# Altium footprint library RF_Transceiver_LimeMicro_LMS6002D_DQFN-116.PcbLib: 1 footprints
Each footprint in its own frame and in the unit in brackets; x right, y up, seen from the top. Pads: shape width x height; smd on the part's side, far side on the other; paste and mask are expansions set on the pad; w line width, h text height; cw(c..) or ccw(c..) is an arc to the next point about the centre after c.
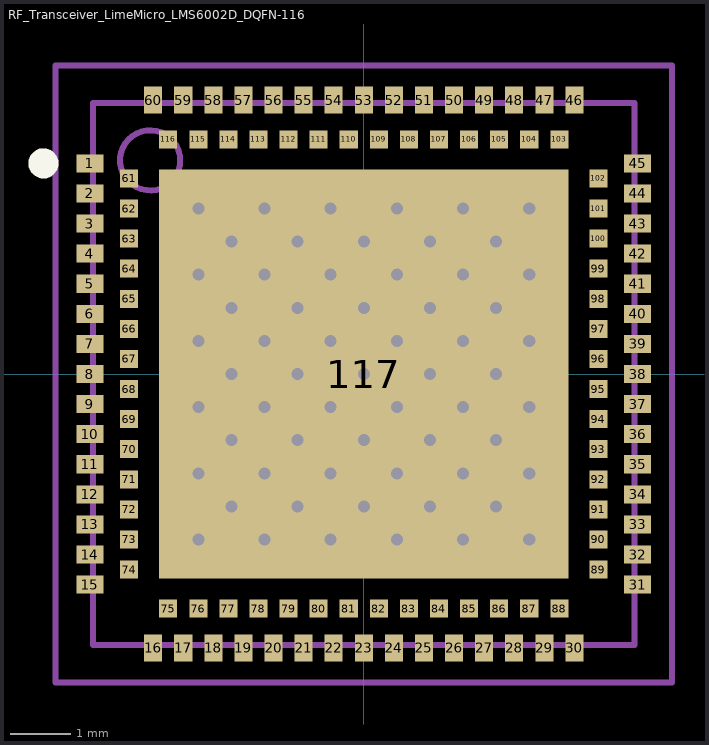
[diagram p0: the footprint, top view; thin cyan lines are the x and y axes]

## RF_Transceiver_LimeMicro_LMS6002D_DQFN-116 [mm]
height 0.85
pads (117):
  rect 0.45x0.3 smd: 1(-4.55,3.5) 2(-4.55,3) 3(-4.55,2.5) 4(-4.55,2) 5(-4.55,1.5) 6(-4.55,1) 7(-4.55,0.5) 8(-4.55,0) 9(-4.55,-0.5) 10(-4.55,-1) 11(-4.55,-1.5) 12(-4.55,-2) 13(-4.55,-2.5) 14(-4.55,-3) 15(-4.55,-3.5) 31(4.55,-3.5) 32(4.55,-3) 33(4.55,-2.5) 34(4.55,-2) 35(4.55,-1.5) 36(4.55,-1) 37(4.55,-0.5) 38(4.55,0) 39(4.55,0.5) 40(4.55,1) 41(4.55,1.5) 42(4.55,2) 43(4.55,2.5) 44(4.55,3) 45(4.55,3.5)
  rect 0.3x0.45 smd: 16(-3.5,-4.55) 17(-3,-4.55) 18(-2.5,-4.55) 19(-2,-4.55) 20(-1.5,-4.55) 21(-1,-4.55) 22(-0.5,-4.55) 23(0,-4.55) 24(0.5,-4.55) 25(1,-4.55) 26(1.5,-4.55) 27(2,-4.55) 28(2.5,-4.55) 29(3,-4.55) 30(3.5,-4.55) 46(3.5,4.55) 47(3,4.55) 48(2.5,4.55) 49(2,4.55) 50(1.5,4.55) 51(1,4.55) 52(0.5,4.55) 53(0,4.55) 54(-0.5,4.55) 55(-1,4.55) 56(-1.5,4.55) 57(-2,4.55) 58(-2.5,4.55) 59(-3,4.55) 60(-3.5,4.55)
  rect 0.3x0.3 smd: 61(-3.9,3.25) 62(-3.9,2.75) 63(-3.9,2.25) 64(-3.9,1.75) 65(-3.9,1.25) 66(-3.9,0.75) 67(-3.9,0.25) 68(-3.9,-0.25) 69(-3.9,-0.75) 70(-3.9,-1.25) 71(-3.9,-1.75) 72(-3.9,-2.25) 73(-3.9,-2.75) 74(-3.9,-3.25) 75(-3.25,-3.9) 76(-2.75,-3.9) 77(-2.25,-3.9) 78(-1.75,-3.9) 79(-1.25,-3.9) 80(-0.75,-3.9) 81(-0.25,-3.9) 82(0.25,-3.9) 83(0.75,-3.9) 84(1.25,-3.9) 85(1.75,-3.9) 86(2.25,-3.9) 87(2.75,-3.9) 88(3.25,-3.9) 89(3.9,-3.25) 90(3.9,-2.75) 91(3.9,-2.25) 92(3.9,-1.75) 93(3.9,-1.25) 94(3.9,-0.75) 95(3.9,-0.25) 96(3.9,0.25) 97(3.9,0.75) 98(3.9,1.25) 99(3.9,1.75) 100(3.9,2.25) 101(3.9,2.75) 102(3.9,3.25) 103(3.25,3.9) 104(2.75,3.9) 105(2.25,3.9) 106(1.75,3.9) 107(1.25,3.9) 108(0.75,3.9) 109(0.25,3.9) 110(-0.25,3.9) 111(-0.75,3.9) 112(-1.25,3.9) 113(-1.75,3.9) 114(-2.25,3.9) 115(-2.75,3.9) 116(-3.25,3.9)
  rect 6.8x6.8 smd: 117(0,0)
via 1.1,-1.1 diameter 0.4 hole 0.2
via -1.1,-1.1 diameter 0.4 hole 0.2
via -0.55,-1.65 diameter 0.4 hole 0.2
via 2.2,-2.2 diameter 0.4 hole 0.2
via 2.2,-1.1 diameter 0.4 hole 0.2
via -2.2,-1.1 diameter 0.4 hole 0.2
via 0.55,-1.65 diameter 0.4 hole 0.2
via -2.75,-2.75 diameter 0.4 hole 0.2
via -1.65,-0.55 diameter 0.4 hole 0.2
via -0.55,-0.55 diameter 0.4 hole 0.2
via -2.75,2.75 diameter 0.4 hole 0.2
via -0.55,2.75 diameter 0.4 hole 0.2
via 2.75,2.75 diameter 0.4 hole 0.2
via 0.55,2.75 diameter 0.4 hole 0.2
via -2.75,-0.55 diameter 0.4 hole 0.2
via 0.55,-0.55 diameter 0.4 hole 0.2
via 1.65,-0.55 diameter 0.4 hole 0.2
via 2.75,-0.55 diameter 0.4 hole 0.2
via 0,-1.1 diameter 0.4 hole 0.2
via -1.65,2.75 diameter 0.4 hole 0.2
via 1.65,2.75 diameter 0.4 hole 0.2
via -1.65,-2.75 diameter 0.4 hole 0.2
via 0.55,-2.75 diameter 0.4 hole 0.2
via -2.2,-2.2 diameter 0.4 hole 0.2
via -1.1,-2.2 diameter 0.4 hole 0.2
via -0.55,-2.75 diameter 0.4 hole 0.2
via 1.1,-2.2 diameter 0.4 hole 0.2
via 0,-2.2 diameter 0.4 hole 0.2
via -2.75,1.65 diameter 0.4 hole 0.2
via -1.65,1.65 diameter 0.4 hole 0.2
via -1.65,-1.65 diameter 0.4 hole 0.2
via -2.75,-1.65 diameter 0.4 hole 0.2
via 1.65,-2.75 diameter 0.4 hole 0.2
via 2.75,-2.75 diameter 0.4 hole 0.2
via 2.75,-1.65 diameter 0.4 hole 0.2
via 1.65,-1.65 diameter 0.4 hole 0.2
via -2.2,2.2 diameter 0.4 hole 0.2
via -1.1,2.2 diameter 0.4 hole 0.2
via 2.2,2.2 diameter 0.4 hole 0.2
via 1.1,2.2 diameter 0.4 hole 0.2
via 0,2.2 diameter 0.4 hole 0.2
via -0.55,1.65 diameter 0.4 hole 0.2
via 2.75,1.65 diameter 0.4 hole 0.2
via -1.1,1.1 diameter 0.4 hole 0.2
via 2.2,1.1 diameter 0.4 hole 0.2
via 1.1,1.1 diameter 0.4 hole 0.2
via -2.75,0.55 diameter 0.4 hole 0.2
via -0.55,0.55 diameter 0.4 hole 0.2
via 2.75,0.55 diameter 0.4 hole 0.2
via -2.2,0 diameter 0.4 hole 0.2
via -1.1,0 diameter 0.4 hole 0.2
via 1.1,0 diameter 0.4 hole 0.2
via 1.65,1.65 diameter 0.4 hole 0.2
via 0.55,1.65 diameter 0.4 hole 0.2
via -2.2,1.1 diameter 0.4 hole 0.2
via 0,1.1 diameter 0.4 hole 0.2
via -1.65,0.55 diameter 0.4 hole 0.2
via 1.65,0.55 diameter 0.4 hole 0.2
via 0.55,0.55 diameter 0.4 hole 0.2
via 2.2,0 diameter 0.4 hole 0.2
via 0,0 diameter 0.4 hole 0.2
Top Overlay:
  circle w0.25: c-5.325,3.5 r0.125
Mechanical 13:
  circle w0.1: c-3.55,3.55 r0.5
  lines w0.1: -4.5,-4.5 -4.5,4.5 4.5,4.5 4.5,-4.5 -4.5,-4.5
Mechanical 15:
  lines w0.1: -5.125,-5.125 -5.125,5.125 5.125,5.125 5.125,-5.125 -5.125,-5.125
3D body: height 0.85, standoff 0, extent -4.5,-4.5 4.5,4.5